# Altium schematic symbol library LNK306.Schlib: 1 symbol
Pins are listed as number, name and electrical type; pins without a type are passive.

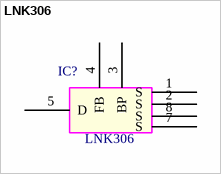
[diagram p0: symbol LNK306]

## LNK306
designator IC?
AC/DC Converters 225mA MDCM 360mA CCM
pins: 1 S, 2 S, 3 BP, 4 FB, 5 D, 7 S, 8 S